# Altium footprint library 模拟开关.PcbLib: 1 footprints
Each footprint in its own frame and in the unit in brackets; x right, y up, seen from the top. Pads: shape width x height; smd on the part's side, far side on the other; paste and mask are expansions set on the pad; w line width, h text height; cw(c..) or ccw(c..) is an arc to the next point about the centre after c.
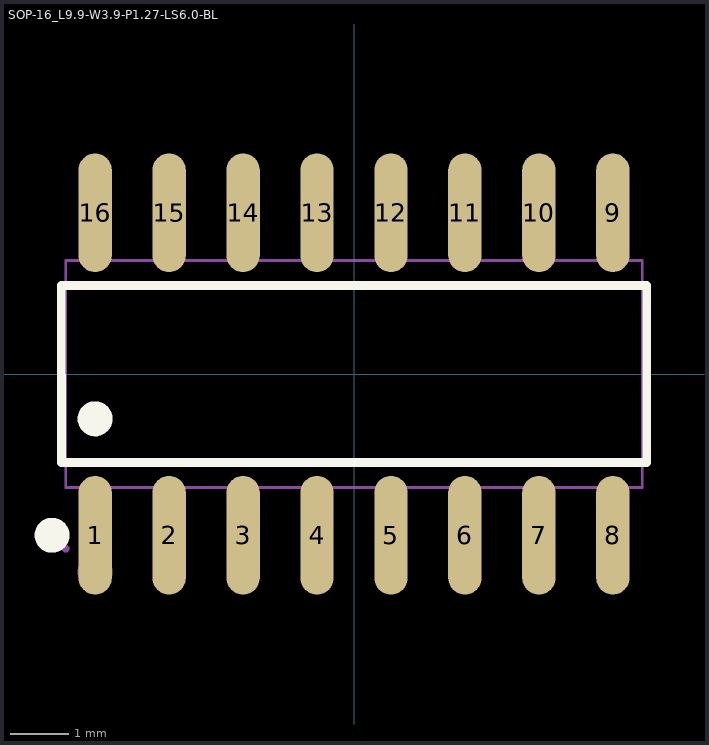
[diagram p0: the footprint, top view; thin cyan lines are the x and y axes]

## SOP-16_L9.9-W3.9-P1.27-LS6.0-BL [mil]
pads (16):
  oval 22.6x80.24 smd: 1(-175,-109.02) 2(-125,-109.02) 3(-75,-109.02) 4(-25,-109.02) 5(25,-109.02) 6(75,-109.02) 7(125,-109.02) 8(175,-109.02) 9(175,109.02) 10(125,109.02) 11(75,109.02) 12(25,109.02) 13(-25,109.02) 14(-75,109.02) 15(-125,109.02) 16(-175,109.02)
Top Overlay:
  circle w11.81: c-175,-30.28 r5.91
  circle w11.81: c-204.11,-109.02 r5.91
  lines w6: -197.88,-59.9 197.88,-59.9 197.88,59.9 -197.88,59.9 -197.87,-59.9
Mechanical 6:
  circle w11.81: c-175,-133.86 r5.91
Mechanical 15:
  drawing of 37 lines, arcs and shapes, not listed